# Altium footprint library SAMTEC_PCIE-164-02-X-D-TH.PcbLib: 1 footprints
Each footprint in its own frame and in the unit in brackets; x right, y up, seen from the top. Pads: shape width x height; smd on the part's side, far side on the other; paste and mask are expansions set on the pad; w line width, h text height; cw(c..) or ccw(c..) is an arc to the next point about the centre after c.
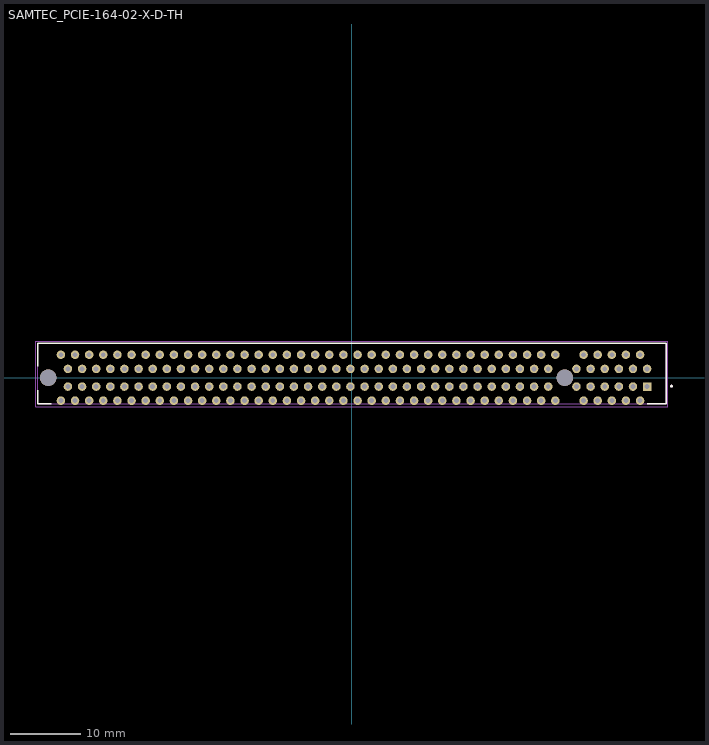
[diagram p0: the footprint, top view; thin cyan lines are the x and y axes]

## SAMTEC_PCIE-164-02-X-D-TH [mm]
pads (166):
  rect 1.208x1.208 hole 0.7: A1(41.8,-1.25)
  round 1.208 hole 0.7: A2(40.8,-3.25) A3(39.8,-1.25) A4(38.8,-3.25) A5(37.8,-1.25) A6(36.8,-3.25) A7(35.8,-1.25) A8(34.8,-3.25) A9(33.8,-1.25) A10(32.8,-3.25) A11(31.8,-1.25) A12(28.8,-3.25) A13(27.8,-1.25) A14(26.8,-3.25) A15(25.8,-1.25) A16(24.8,-3.25) A17(23.8,-1.25) A18(22.8,-3.25) A19(21.8,-1.25) A20(20.8,-3.25) A21(19.8,-1.25) A22(18.8,-3.25) A23(17.8,-1.25) A24(16.8,-3.25) A25(15.8,-1.25) A26(14.8,-3.25) A27(13.8,-1.25) A28(12.8,-3.25) A29(11.8,-1.25) A30(10.8,-3.25) A31(9.8,-1.25) A32(8.8,-3.25) A33(7.8,-1.25) A34(6.8,-3.25) A35(5.8,-1.25) A36(4.8,-3.25) A37(3.8,-1.25) A38(2.8,-3.25) A39(1.8,-1.25) A40(0.8,-3.25) A41(-0.2,-1.25) A42(-1.2,-3.25) A43(-2.2,-1.25) A44(-3.2,-3.25) A45(-4.2,-1.25) A46(-5.2,-3.25) A47(-6.2,-1.25) A48(-7.2,-3.25) A49(-8.2,-1.25) A50(-9.2,-3.25) A51(-10.2,-1.25) A52(-11.2,-3.25) A53(-12.2,-1.25) A54(-13.2,-3.25) A55(-14.2,-1.25) A56(-15.2,-3.25) A57(-16.2,-1.25) A58(-17.2,-3.25) A59(-18.2,-1.25) A60(-19.2,-3.25) A61(-20.2,-1.25) A62(-21.2,-3.25) A63(-22.2,-1.25) A64(-23.2,-3.25) A65(-24.2,-1.25) A66(-25.2,-3.25) A67(-26.2,-1.25) A68(-27.2,-3.25) A69(-28.2,-1.25) A70(-29.2,-3.25) A71(-30.2,-1.25) A72(-31.2,-3.25) A73(-32.2,-1.25) A74(-33.2,-3.25) A75(-34.2,-1.25) A76(-35.2,-3.25) A77(-36.2,-1.25) A78(-37.2,-3.25) A79(-38.2,-1.25) A80(-39.2,-3.25) A81(-40.2,-1.25) A82(-41.2,-3.25) B1(41.8,1.25) B2(40.8,3.25) B3(39.8,1.25) B4(38.8,3.25) B5(37.8,1.25) B6(36.8,3.25) B7(35.8,1.25) B8(34.8,3.25) B9(33.8,1.25) B10(32.8,3.25) B11(31.8,1.25) B12(28.8,3.25) B13(27.8,1.25) B14(26.8,3.25) B15(25.8,1.25) B16(24.8,3.25) B17(23.8,1.25) B18(22.8,3.25) B19(21.8,1.25) B20(20.8,3.25) B21(19.8,1.25) B22(18.8,3.25) B23(17.8,1.25) B24(16.8,3.25) B25(15.8,1.25) B26(14.8,3.25) B27(13.8,1.25) B28(12.8,3.25) B29(11.8,1.25) B30(10.8,3.25) B31(9.8,1.25) B32(8.8,3.25) B33(7.8,1.25) B34(6.8,3.25) B35(5.8,1.25) B36(4.8,3.25) B37(3.8,1.25) B38(2.8,3.25) B39(1.8,1.25) B40(0.8,3.25) B41(-0.2,1.25) B42(-1.2,3.25) B43(-2.2,1.25) B44(-3.2,3.25) B45(-4.2,1.25) B46(-5.2,3.25) B47(-6.2,1.25) B48(-7.2,3.25) B49(-8.2,1.25) B50(-9.2,3.25) B51(-10.2,1.25) B52(-11.2,3.25) B53(-12.2,1.25) B54(-13.2,3.25) B55(-14.2,1.25) B56(-15.2,3.25) B57(-16.2,1.25) B58(-17.2,3.25) B59(-18.2,1.25) B60(-19.2,3.25) B61(-20.2,1.25) B62(-21.2,3.25) B63(-22.2,1.25) B64(-23.2,3.25) B65(-24.2,1.25) B66(-25.2,3.25) B67(-26.2,1.25) B68(-27.2,3.25) B69(-28.2,1.25) B70(-29.2,3.25) B71(-30.2,1.25) B72(-31.2,3.25) B73(-32.2,1.25) B74(-33.2,3.25) B75(-34.2,1.25) B76(-35.2,3.25) B77(-36.2,1.25) B78(-37.2,3.25) B79(-38.2,1.25) B80(-39.2,3.25) B81(-40.2,1.25) B82(-41.2,3.25)
  round 2.35 hole 2.35 unplated: ""(-43,0) ""(30.15,0)
Top Overlay:
  circle w0.2: c45.25,-1.2 r0.1
  lines w0.2: -44.5,-1.8 -44.5,-3.71 -42.55,-3.71 ; -44.5,1.6 -44.5,4.9 44.5,4.9 44.5,-3.71 41.85,-3.71
Mechanical 13:
  circle w0.2: c45.25,-1.2 r0.1
  lines w0.1: -44.5,-3.71 44.5,-3.71 44.5,4.9 -44.5,4.9 -44.5,-3.71
Mechanical 15:
  lines w0.05: -44.75,-4.1 44.75,-4.1 44.75,5.15 -44.75,5.15 -44.75,-4.1